# EAGLE library part JACK_BIG_TRS-NORM (library bao20)
NEUTRIK_NMJ6HFD2
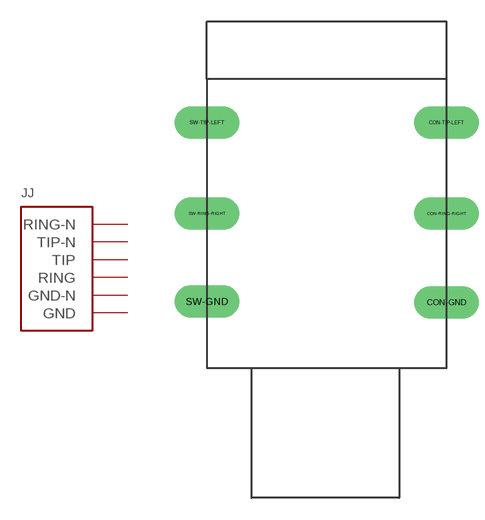
[diagram p7: symbol with the pads of NEUTRIK_STEREO_NMJ6HFD2; footprint NEUTRIK_STEREO_NMJ6HFD2]

Designator prefix JJ

## JACK_BIG_TRS-NORMNEUTRIK (NHPREF: 86; POPULATE: TRUE)  [NEUTRIK_STEREO_NMJ6HFD2]
CON-GND  GND
CON-RING-RIGHT  RING
CON-TIP-LEFT  TIP
SW-GND  GND-N
SW-RING-RIGHT  RING-N
SW-TIP-LEFT  TIP-N

## Footprint NEUTRIK_STEREO_NMJ6HFD2 (pad centres in mm)
drill 1.5 long: CON-GND 8.4,4.68; CON-RING-RIGHT 8.4,10.83; CON-TIP-LEFT 8.4,17.13; SW-GND -8.2,4.73; SW-RING-RIGHT -8.2,10.83; SW-TIP-LEFT -8.2,17.13